# Altium footprint library Capacitors_Tantalum.PcbLib: 5 footprints
Each footprint in its own frame and in the unit in brackets; x right, y up, seen from the top. Pads: shape width x height; smd on the part's side, far side on the other; paste and mask are expansions set on the pad; w line width, h text height; cw(c..) or ccw(c..) is an arc to the next point about the centre after c.
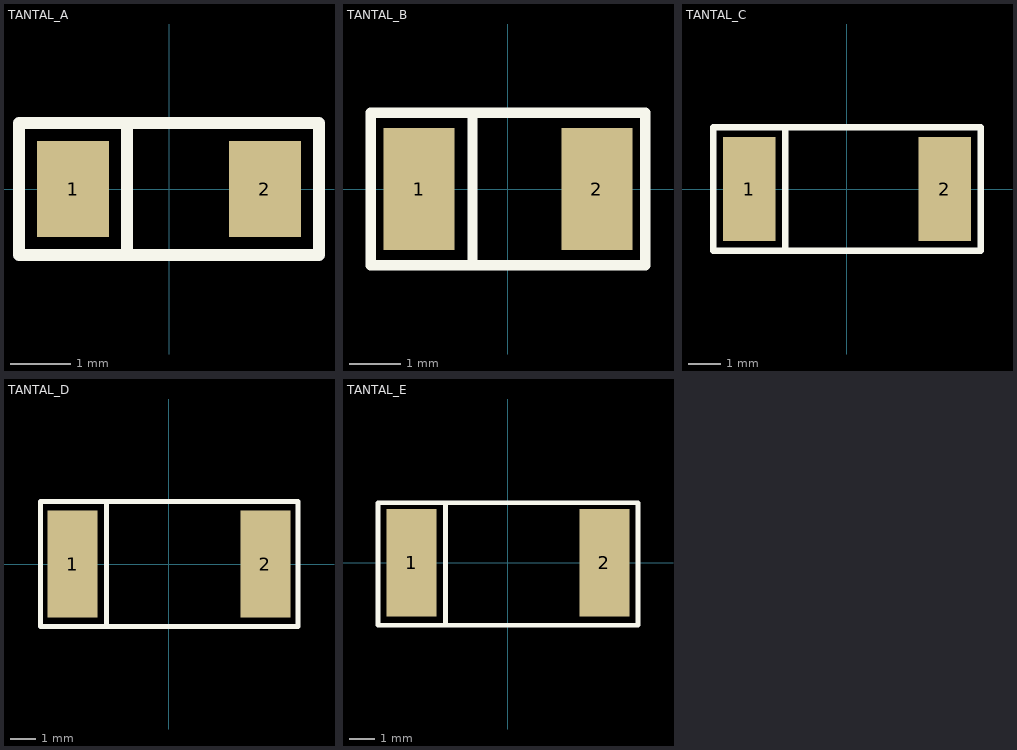
[diagram p0: the footprints below, top view; thin cyan lines are the x and y axes]

## TANTAL_A [mm]
height 1.6
pads (2):
  rect 1.2x1.6 smd: 1(-1.6,0) 2(1.6,0)
Top Overlay:
  lines w0.2: -0.7,-1.1 -0.7,1.1 ; -2.5,-1.1 -2.5,1.1 2.5,1.1 2.5,-1.1 -2.5,-1.1
3D body "User Library-AVX_ACASE.STEP": height 1.71, standoff 0, extent -1.7,-0.84 1.7,0.84

## TANTAL_B [mm]
height 1.9
pads (2):
  rect 1.4x2.4 smd: 1(-1.75,0) 2(1.75,0)
Top Overlay:
  lines w0.2: -0.7,-1.5 -0.7,1.5 ; -2.7,-1.5 -2.7,1.5 2.7,1.5 2.7,-1.5 -2.7,-1.5
3D body "User Library-AVX_BCASE.STEP": height 2.03, standoff 0, extent -1.85,-1.465 1.85,1.465

## TANTAL_C [mm]
height 2.5
pads (2):
  rect 1.6x3.2 smd: 1(-3,0) 2(3,0)
Top Overlay:
  lines w0.2: -1.9,-1.9 -1.9,1.9 ; -4.1,-1.9 4.1,-1.9 4.1,1.9 -4.1,1.9 -4.1,-1.9
3D body "User Library-AVX_C_CASE.STEP": height 2.7, standoff 0, extent -3.05,-1.675 3.05,1.675

## TANTAL_D [mm]
height 2.9
pads (2):
  rect 2x4.3 smd: 1(-3.85,0) 2(3.85,0)
Top Overlay:
  lines w0.2: -2.5,-2.5 -2.5,2.5 ; -5.15,-2.5 5.15,-2.5 5.15,2.5 -5.15,2.5 -5.15,-2.5
3D body "User Library-AVX_D_CASE.STEP": height 3.01, standoff 0, extent -3.7,-2.225 3.7,2.225

## TANTAL_E [mm]
height 2.9
pads (2):
  rect 2x4.3 smd: 1(-3.85,0) 2(3.85,0)
Top Overlay:
  lines w0.2: -2.5,-2.5 -2.5,2.4 ; -5.2,-2.5 5.2,-2.5 5.2,2.4 -5.2,2.4 -5.2,-2.5
3D body "User Library-AVX_E_CASE.STEP": height 4.2, standoff 0, extent -3.7,-2.225 3.7,2.225